# EAGLE library part DER8873 (library texas_instrument)
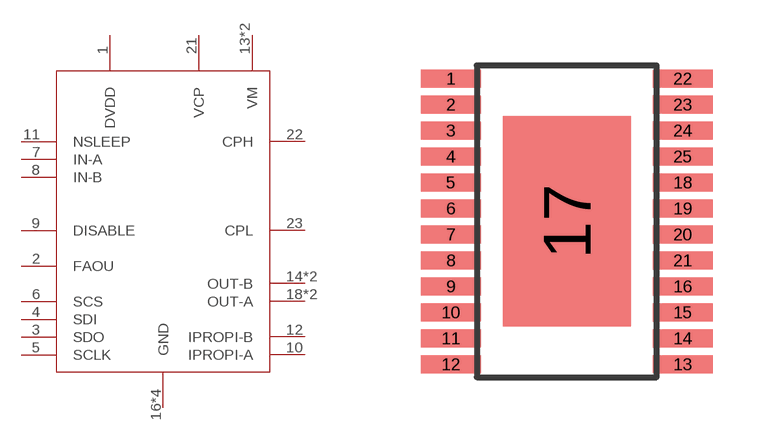
[diagram p1: symbol with the pads of 24HTSSOP; footprint 24HTSSOP]

Designator prefix DRV

## DER8873  [24HTSSOP]
1  DVDD
2  FAOU
3  SDO
4  SDI
5  SCLK
6  SCS
7  IN-A
8  IN-B
9  DISABLE
10  IPROPI-A
11  NSLEEP
12  IPROPI-B
13  VM
14  OUT-B
15  OUT-B
16  GND
17  GND
18  OUT-A
19  OUT-A
20  VM
21  VCP
22  CPH
23  CPL
24  GND
25  GND

## Footprint 24HTSSOP (pad centres in mm)
smd 1.5 x 0.45: 1 -2.9,3.575; 2 -2.9,2.925; 3 -2.9,2.275; 4 -2.9,1.625; 5 -2.9,0.975; 6 -2.9,0.325; 7 -2.9,-0.325; 8 -2.9,-0.975; 9 -2.9,-1.625; 10 -2.9,-2.275; 11 -2.9,-2.925; 12 -2.9,-3.575; 13 2.9,-3.575; 14 2.9,-2.925; 15 2.9,-2.275; 16 2.9,-1.625; 18 2.9,0.975; 19 2.9,0.325; 20 2.9,-0.325; 21 2.9,-0.975; 22 2.9,3.575; 23 2.9,2.925; 24 2.9,2.275; 25 2.9,1.625
smd 3.2 x 5.26: 17 0,0